# EAGLE library part LM13700 (library _common)
Dual Operational Transconductance Amplifier with Linearizing Diodes and Buffers
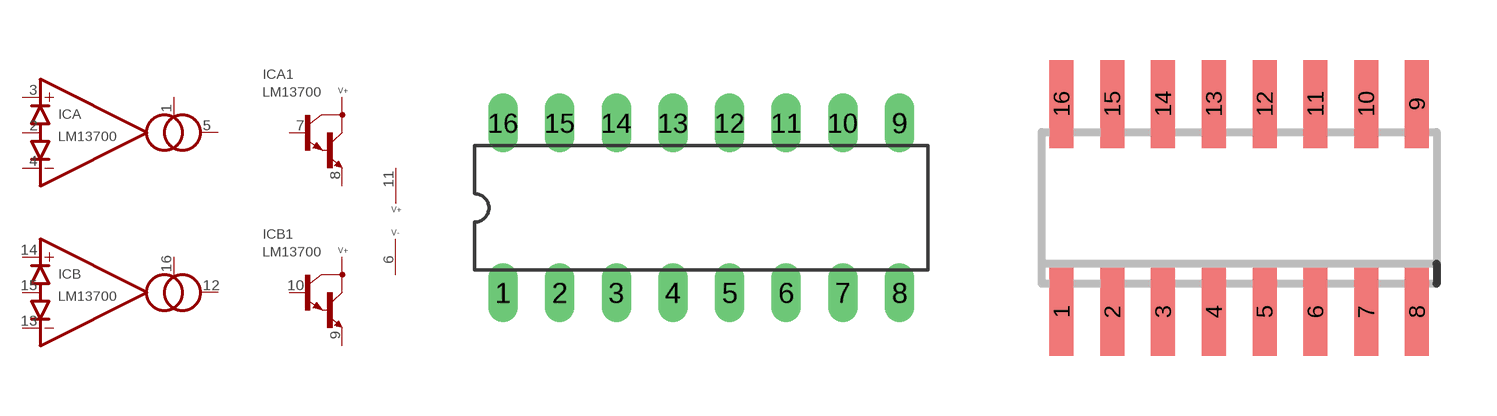
[diagram p6: symbol with the pads of DIL-16; footprints DIL-16, SO16]

Designator prefix IC; gates A=LM13700AMP B=LM13700AMP A1=LM13700BUF B1=LM13700BUF P=PWR+-

## LM13700N  [DIL-16]
1  A:AMP-BIAS  in
2  A:DIODE-BIAS
3  A:IN+  in
4  A:IN-  in
5  A:OUT
6  P:V-  pwr
7  A1:BUF-IN
8  A1:BUF-OUT
9  B1:BUF-OUT
10  B1:BUF-IN
11  P:V+  pwr
12  B:OUT
13  B:IN-  in
14  B:IN+  in
15  B:DIODE-BIAS
16  B:AMP-BIAS  in

## LM13700M  [SO16]
Pads as for DIL-16

## Footprint DIL-16 (pad centres in mm)
SOCKET Dual In Line
drill 0.813 long: 1 -8.89,-3.81; 2 -6.35,-3.81; 3 -3.81,-3.81; 4 -1.27,-3.81; 5 1.27,-3.81; 6 3.81,-3.81; 7 6.35,-3.81; 8 8.89,-3.81; 9 8.89,3.81; 10 6.35,3.81; 11 3.81,3.81; 12 1.27,3.81; 13 -1.27,3.81; 14 -3.81,3.81; 15 -6.35,3.81; 16 -8.89,3.81

## Footprint SO16 (pad centres in mm)
smd 0.6 x 2.2: 1 -4.445,-2.6; 2 -3.175,-2.6; 3 -1.905,-2.6; 4 -0.635,-2.6; 5 0.635,-2.6; 6 1.905,-2.6; 7 3.175,-2.6; 8 4.445,-2.6; 9 4.445,2.6; 10 3.175,2.6; 11 1.905,2.6; 12 0.635,2.6; 13 -0.635,2.6; 14 -1.905,2.6; 15 -3.175,2.6; 16 -4.445,2.6